# EAGLE library part LIIONCHARGERPROTECTION (library chinese-modules)
Li-Ion 1S Charger with Protection
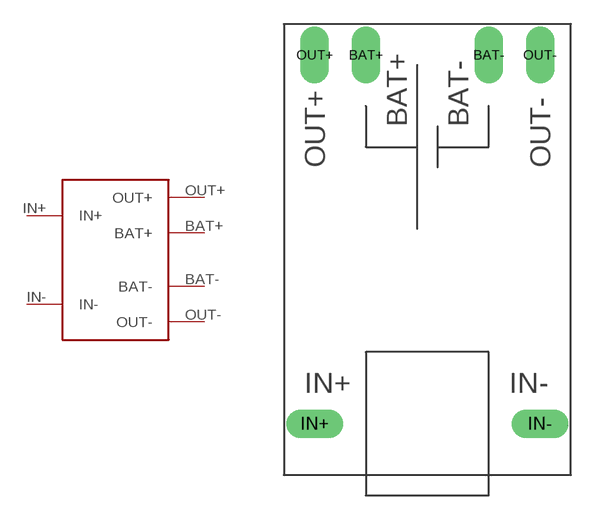
[diagram p2: symbol with the pads of LIIONCHARGERPROTECTION; footprint LIIONCHARGERPROTECTION]

Designator prefix -

## LIIONCHARGERPROTECTION  [LIIONCHARGERPROTECTION]
BAT+  BAT+
BAT-  BAT-
IN+  IN+
IN-  IN-
OUT+  OUT+
OUT-  OUT-

## Footprint LIIONCHARGERPROTECTION (pad centres in mm)
Li-Ion 1S Charger Module Footprint
drill 0.8 pad 1.778 long: BAT+ 5.08,26.035; BAT- 12.7,26.035; IN+ 1.905,3.175; IN- 15.875,3.175; OUT+ 1.905,26.035; OUT- 15.875,26.035